# Altium footprint library res.PcbLib: 38 footprints (part 1 of 3)
Each footprint in its own frame and in the unit in brackets; x right, y up, seen from the top. Pads: shape width x height; smd on the part's side, far side on the other; paste and mask are expansions set on the pad; w line width, h text height; cw(c..) or ccw(c..) is an arc to the next point about the centre after c.
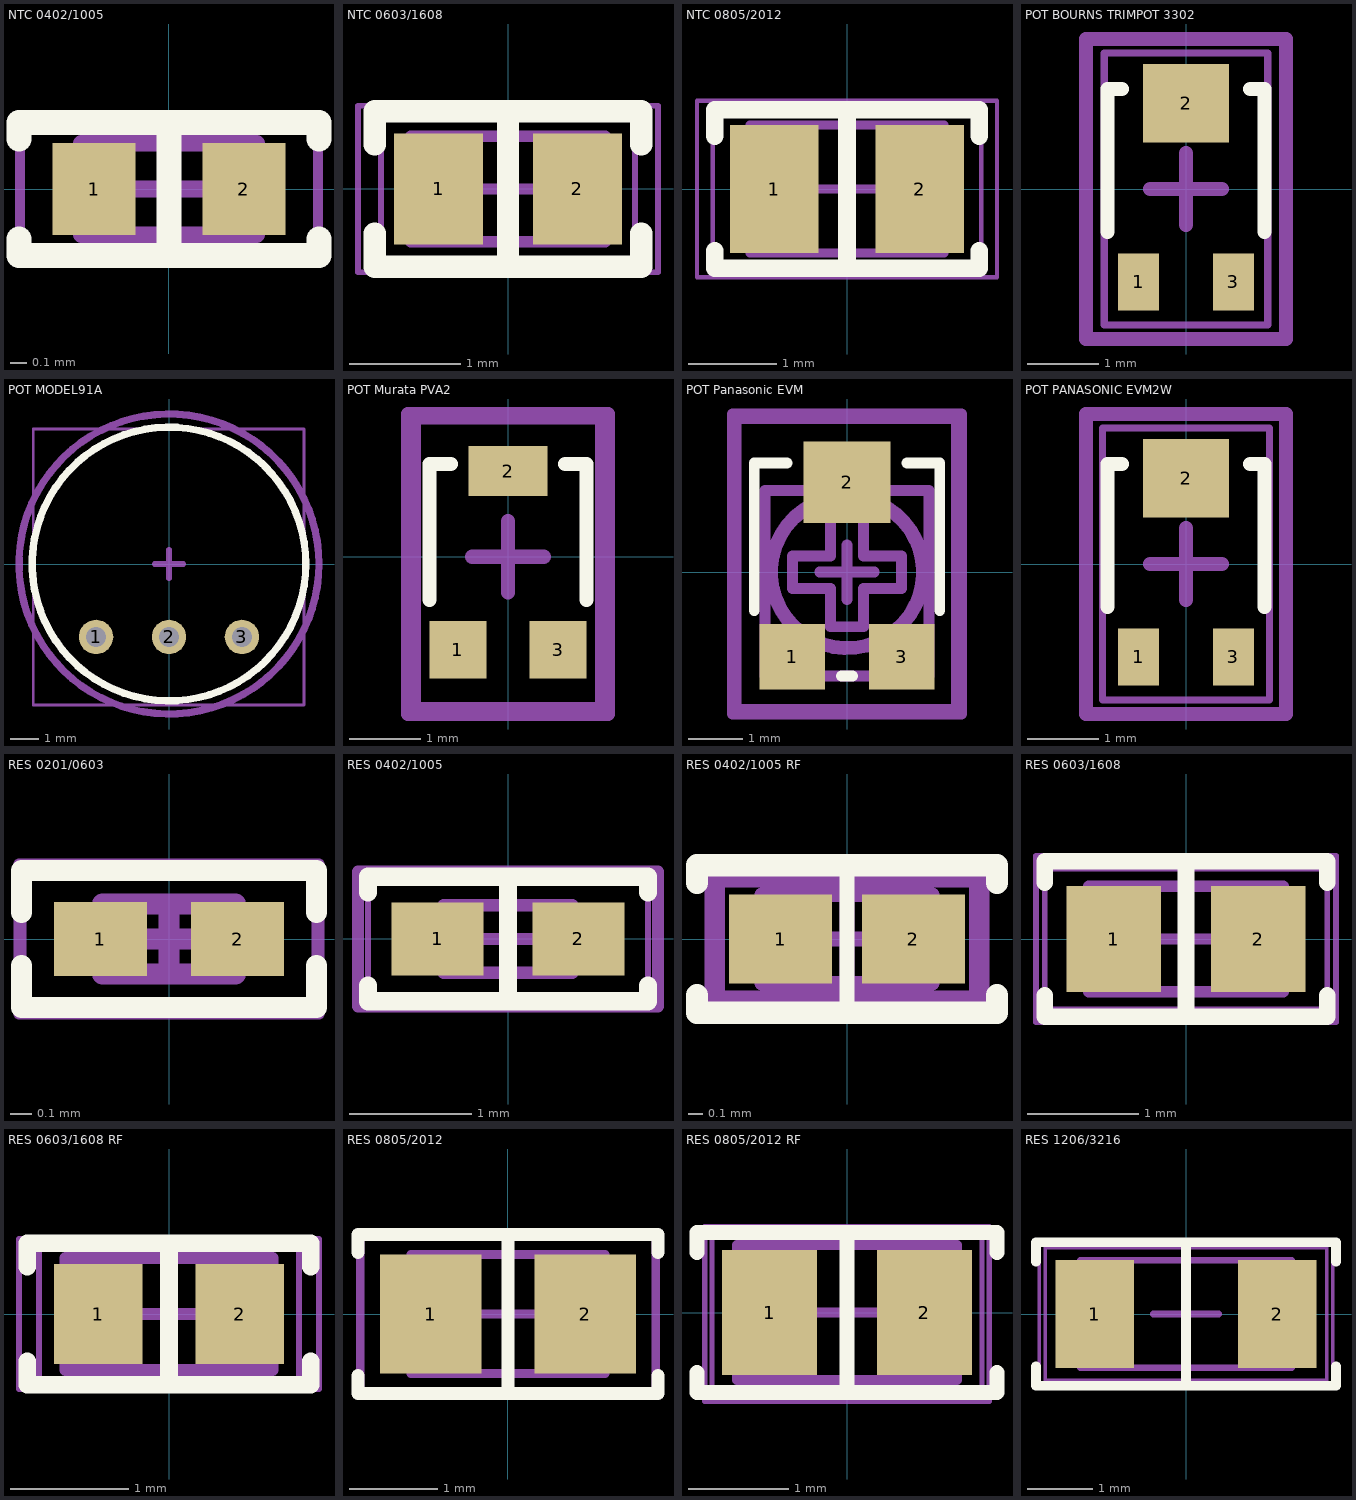
[diagram p0: the footprints below, top view; thin cyan lines are the x and y axes]

## NTC 0402/1005 [mm] "Chip Thermistor, 2-Leads, Body 1.00x0.50mm, IPC Medium Density"
height 0.55
pads (2):
  rect 0.5x0.55 smd: 1(-0.45,0) 2(0.45,0)
Top Overlay:
  lines w0.15: -0.9,-0.3 -0.9,-0.4 0,-0.4 ; -0.9,0.3 -0.9,0.4 -0.2,0.4 0.9,0.4 0.9,0.3 ; 0,0.4 0,-0.4 ; 0.9,-0.3 0.9,-0.4 0,-0.4
Mechanical 13:
  lines w0.1: -0.525,-0.275 0.525,-0.275 0.525,0.275 -0.525,0.275 -0.525,-0.275
Top Component:
  lines w0.051: -0.889,-0.381 -0.889,0.381 0.889,0.381 0.889,-0.381 -0.889,-0.381
  text ".Designator" at -0.305,-0.203 h0.76
Comment:
  text "'.Comment'" at -0.305,-0.203 h0.76
Component Center:
  lines w0.05: -0.9,-0.45 -0.9,0.45 0.9,0.45 0.9,-0.45 -0.9,-0.45
  lines w0.1: -0.275,0 0.275,0 ; 0,-0.275 0,0.275
3D body "NTC 0402.STEP": height 0.55, standoff 0.03, extent -0.5,-0.262 0.5,0.262

## NTC 0603/1608 [mm] "NTC Thermistor, 2-Leads, Body 1.60x0.80mm, IPC Medium Density"
height 0.95
pads (2):
  rect 0.8x1 smd: 1(-0.625,0) 2(0.625,0)
Top Overlay:
  lines w0.2: -1.2,-0.4 -1.2,-0.7 1.2,-0.7 1.2,-0.4 ; -1.2,0.4 -1.2,0.7 1.2,0.7 1.2,0.4 ; 0,-0.7 0,0.7
Mechanical 13:
  lines w0.1: -0.875,-0.475 0.875,-0.475 0.875,0.475 -0.875,0.475 -0.875,-0.475
Top Component:
  lines w0.051: -1.143,-0.635 -1.143,0.635 1.143,0.635 1.143,-0.635 -1.143,-0.635
  text ".Designator" at -0.406,-0.305 h1.02
Comment:
  text "'.Comment'" at -0.406,-0.305 h1.02
Component Center:
  lines w0.05: -1.35,-0.75 -1.35,0.75 1.35,0.75 1.35,-0.75 -1.35,-0.75
  lines w0.1: -0.475,0 0.475,0 ; 0,-0.475 0,0.475
3D body "NTC 0603.STEP": height 0.85, standoff 0.03, extent -0.8,-0.412 0.8,0.412

## NTC 0805/2012 [mm] "Chip Thermistor, 2-Leads, Body 2.00x1.25mm, IPC Medium Density"
height 1
pads (2):
  rect 1x1.45 smd: 1(-0.825,0) 2(0.825,0)
Top Overlay:
  lines w0.2: -1.5,-0.7 -1.5,-0.9 1.5,-0.9 1.5,-0.7 ; -1.5,0.6 -1.5,0.9 1.5,0.9 1.5,0.6 ; 0,-0.9 0,0.9
Mechanical 13:
  lines w0.1: -1.1,-0.725 -1.1,0.725 1.1,0.725 1.1,-0.725 -1.1,-0.725
Top Component:
  lines w0.051: -1.524,-0.889 1.524,-0.889 1.524,0.889 -1.524,0.889 -1.524,-0.889
  text ".Designator" at -0.508,-0.381 h1.27
Comment:
  text "'.Comment'" at -0.508,-0.381 h1.27
Component Center:
  lines w0.05: -1.7,-1 1.7,-1 1.7,1 -1.7,1 -1.7,-1
  lines w0.1: -0.5,0 0.5,0 ; 0,-0.5 0,0.5
3D body "NTC 0805.STEP": height 1.3, standoff 0.03, extent -1,-0.637 1,0.637

## POT BOURNS TRIMPOT 3302 [mm] "Bourns Trimpot 3302 - Open Frame 2.75mm x 2.20mm x 1.05mm"
height 1.05
pads (3):
  rect 0.575x0.8 smd: 1(-0.663,-1.3) 3(0.663,-1.3)
  rect 1.2x1.1 smd: 2(0,1.2)
Top Overlay:
  lines w0.2: -1.1,-0.6 -1.1,1.4 -0.9,1.4 ; 0.9,1.4 1.1,1.4 1.1,-0.6
Top Component:
  lines w0.102: -1.143,-1.905 1.143,-1.905 1.143,1.905 -1.143,1.905 -1.143,-1.905
  text ".Designator" at 0.33,-0.508 h1.27
Component Center:
  lines w0.2: -0.5,0 0.5,0 ; 0,-0.5 0,0.5 ; -1.4,-2.1 1.4,-2.1 1.4,2.1 -1.4,2.1 -1.4,-2.1
3D body "Panasonic EVM2W.STEP": height 0.86, standoff 0.05, extent -1.1,-1.3 1.1,1.45

## POT MODEL91A [mm]
height 5.08
pads (3):
  round 1.2 hole 0.7: 1(-2.54,-2.54) 2(0,-2.54) 3(2.54,-2.54)
Top Overlay:
  circle w0.254: c0,0 r4.763
Top Component:
  lines w0.102: -4.724,-4.902 4.699,-4.902 4.699,4.699 -4.724,4.699 -4.724,-4.902
  text ".Designator" at -1.041,-0.686 h2.54
Component Center:
  circle w0.254: c0,0 r5.22
  lines w0.2: -0.5,0 0.5,0 ; 0,-0.5 0,0.5
3D body "91A-1 mod.STEP": height 4.89, standoff -1.79, extent -4.681,-4.877 4.681,4.699

## POT Murata PVA2 [mm] "Murata PVA2 2.75mm x 2.20mm x 0.80mm"
height 0.8
pads (3):
  rect 0.8x0.8 smd: 1(-0.7,-1.3) 3(0.7,-1.3)
  rect 1.1x0.7 smd: 2(0,1.2)
Top Overlay:
  lines w0.2: -1.1,-0.6 -1.1,1.3 -0.8,1.3 ; 0.8,1.3 1.1,1.3 1.1,-0.6
Top Component:
  lines w0.102: -1.27,-2.083 1.27,-2.083 1.27,1.905 -1.27,1.905 -1.27,-2.083
  text ".Designator" at 0.33,-0.508 h1.27
Component Center:
  lines w0.2: -0.5,0 0.5,0 ; 0,-0.5 0,0.5 ; -1.4,-2.2 -1.4,2 1.4,2 1.4,-2.2 -1.4,-2.2
3D body "Murata PVA2.STEP": height 0.8, standoff 0, extent -1.1,-1.45 1.1,1.3

## POT Panasonic EVM [mm] "Panasonic EVM3Y 3.45mm x 3.10mm x 1.55mm"
height 1.55
pads (3):
  rect 1.2x1.2 smd: 1(-1,-1.55) 3(1,-1.55)
  rect 1.6x1.5 smd: 2(0,1.65)
Top Overlay:
  lines w0.2: -1.7,-0.7 -1.7,2 -1.1,2 ; -0.1,-1.9 0.1,-1.9 ; 1.1,2 1.7,2 1.7,-0.7
Mechanical 1:
  circle w0.254: c0,0 r1.393
  lines w0.2: -1.5,-1.9 -1.5,1.5 1.5,1.5 1.5,-1.9 -1.5,-1.9 ; -1,-0.3 -0.3,-0.3 -0.3,-1 0.3,-1 0.3,-0.3 1,-0.3 1,0.3 0.3,0.3 0.3,1 -0.3,1 -0.3,0.3 -1,0.3 -1,-0.3
Top Component:
  lines w0.102: -1.981,-2.464 1.956,-2.464 1.956,2.769 -1.981,2.769 -1.981,-2.464
  text ".Designator" at 0.33,-0.508 h1.27
Component Center:
  lines w0.2: -0.5,0 0.5,0 ; 0,-0.5 0,0.5 ; -2.1,-2.6 -2.1,2.9 2.1,2.9 2.1,-2.6 -2.1,-2.6
3D body "Panasonic EVM.STEP": height 1.55, standoff 0, extent -1.55,-1.9 1.55,1.85

## POT PANASONIC EVM2W [mm] "Panasonic EVM2W 2.75mm x 2.20mm x 1.05mm"
height 1.05
pads (3):
  rect 0.575x0.8 smd: 1(-0.663,-1.3) 3(0.663,-1.3)
  rect 1.2x1.1 smd: 2(0,1.2)
Top Overlay:
  lines w0.2: -1.1,-0.6 -1.1,1.4 -0.9,1.4 ; 0.9,1.4 1.1,1.4 1.1,-0.6
Top Component:
  lines w0.102: -1.168,-1.905 -1.168,1.905 1.168,1.905 1.168,-1.905 -1.168,-1.905
  text ".Designator" at 0.356,-0.508 h1.27
Component Center:
  lines w0.2: -0.5,0 0.5,0 ; 0,-0.5 0,0.5 ; -1.4,-2.1 1.4,-2.1 1.4,2.1 -1.4,2.1 -1.4,-2.1
3D body "Panasonic EVM2W.STEP": height 0.81, standoff 0, extent -1.1,-1.3 1.1,1.45

## RES 0201/0603 [mm] "Chip Resistor, 2-Leads, Body 0.60x0.30mm, IPC Medium Density"
height 0.26
pads (2):
  rect 0.44x0.35 smd: 1(-0.325,0) 2(0.325,0)
Top Overlay:
  lines w0.1: -0.7,-0.125 -0.7,-0.325 0.7,-0.325 0.7,-0.125 ; -0.7,0.125 -0.7,0.325 0.7,0.325 0.7,0.125
Mechanical 13:
  lines w0.1: -0.315,-0.165 -0.315,0.165 0.315,0.165 0.315,-0.165 -0.315,-0.165
Top Component:
  lines w0.051: -0.711,-0.356 -0.711,0.356 0.711,0.356 0.711,-0.356 -0.711,-0.356
  text ".Designator" at -0.254,-0.178 h0.64
Component Center:
  lines w0.05: -0.7,-0.35 0.7,-0.35 0.7,0.35 -0.7,0.35 -0.7,-0.35
  lines w0.1: -0.165,0 0.165,0 ; 0,-0.165 0,0.165
3D body "RES 0201.STEP": height 0.21, standoff -0.01, extent -0.3,-0.15 0.3,0.15

## RES 0402/1005 [mm] "Chip Resistor, 2-Leads, Body 1.0x0.5mm, IPC Medium Density"
height 0.4
pads (2):
  rect 0.75x0.6 smd: 1(-0.575,0) 2(0.575,0)
Top Overlay:
  lines w0.15: -1.143,-0.381 -1.143,-0.508 1.143,-0.508 1.143,-0.381 ; -1.143,0.381 -1.143,0.508 1.143,0.508 1.143,0.381 ; 0,-0.508 0,0.508
Mechanical 13:
  lines w0.1: -0.525,-0.275 -0.525,0.275 0.525,0.275 0.525,-0.275 -0.525,-0.275
Top Component:
  lines w0.051: -1.143,-0.483 -1.143,0.483 1.143,0.483 1.143,-0.483 -1.143,-0.483
  text ".Designator" at -0.305,-0.203 h0.76
Comment:
  lines w0.051: -1.143,-0.483 1.143,-0.483 1.143,0.483 -1.143,0.483 -1.143,-0.483
  text "'.Comment'" at -0.305,-0.203 h0.76
Component Center:
  lines w0.1: -0.275,0 0.275,0 ; 0,-0.275 0,0.275 ; -1.225,-0.55 1.225,-0.55 1.225,0.55 -1.225,0.55 -1.225,-0.55
3D body "0402 resistor.STEP": height 0.38, standoff 0.03, extent -0.5,-0.25 0.5,0.25

## RES 0402/1005 RF [mm] "Chip Resistor, 2-Leads, Body 1.0x0.5mm, IPC High Density"
height 0.4
pads (2):
  rect 0.7x0.6 smd: 1(-0.45,0) 2(0.45,0)
Top Overlay:
  lines w0.1: 0,-0.508 0,0.508
  lines w0.15: -1.016,-0.381 -1.016,-0.5 1.016,-0.5 1.016,-0.381 ; -1.016,0.381 -1.016,0.5 1.016,0.5 1.016,0.381
Mechanical 13:
  lines w0.1: -0.575,-0.3 -0.575,0.3 0.575,0.3 0.575,-0.3 -0.575,-0.3
Top Component:
  lines w0.051: -0.94,-0.432 -0.94,0.432 0.94,0.432 0.94,-0.432 -0.94,-0.432
  text ".Designator" at -0.305,-0.203 h0.76
Comment:
  lines w0.051: -0.94,-0.432 0.94,-0.432 0.94,0.432 -0.94,0.432 -0.94,-0.432
  text "'.Comment'" at -0.305,-0.203 h0.76
Component Center:
  lines w0.1: -0.3,0 0.3,0 ; 0,-0.3 0,0.3 ; -0.875,-0.4 0.875,-0.4 0.875,0.4 -0.875,0.4 -0.875,-0.4
3D body "0402 resistor.STEP": height 0.38, standoff 0.03, extent -0.5,-0.25 0.5,0.25

## RES 0603/1608 [mm] "Chip Resistor, 2-Leads, Body 1.60x0.80mm, IPC Medium Density"
height 0.45
pads (2):
  rect 0.85x0.95 smd: 1(-0.65,0) 2(0.65,0)
Top Overlay:
  lines w0.15: -1.27,-0.508 -1.27,-0.7 1.27,-0.7 1.27,-0.508 ; -1.27,0.508 -1.27,0.7 1.27,0.7 1.27,0.508 ; 0,-0.7 0,0.7
Mechanical 13:
  lines w0.1: -0.875,-0.475 -0.875,0.475 0.875,0.475 0.875,-0.475 -0.875,-0.475
Top Component:
  lines w0.051: -1.27,-0.635 1.27,-0.635 1.27,0.635 -1.27,0.635 -1.27,-0.635
  text ".Designator" at -0.406,-0.305 h1.02
Comment:
  lines w0.051: -1.27,-0.635 -1.27,0.635 1.27,0.635 1.27,-0.635 -1.27,-0.635
  text "'.Comment'" at -0.406,-0.305 h1.02
Component Center:
  lines w0.05: -1.35,-0.75 1.35,-0.75 1.35,0.75 -1.35,0.75 -1.35,-0.75
  lines w0.1: -0.475,0 0.475,0 ; 0,-0.475 0,0.475
3D body "0603 resistor.STEP": height 0.48, standoff 0.03, extent -0.8,-0.4 0.8,0.4

## RES 0603/1608 RF [mm] "Chip Resistor, 2-Leads, Body 1.60x0.80mm, IPC High Density"
height 0.45
pads (2):
  rect 0.75x0.85 smd: 1(-0.6,0) 2(0.6,0)
Top Overlay:
  lines w0.15: -1.2,-0.4 -1.2,-0.6 1.2,-0.6 1.2,-0.4 ; -1.2,0.4 -1.2,0.6 1.2,0.6 1.2,0.4 ; 0,-0.6 0,0.6
Mechanical 13:
  lines w0.1: -0.875,-0.475 0.875,-0.475 0.875,0.475 -0.875,0.475 -0.875,-0.475
Top Component:
  lines w0.051: -1.27,-0.635 1.27,-0.635 1.27,0.635 -1.27,0.635 -1.27,-0.635
  text ".Designator" at -0.406,-0.305 h1.02
Comment:
  lines w0.051: -1.27,-0.635 -1.27,0.635 1.27,0.635 1.27,-0.635 -1.27,-0.635
  text "'.Comment'" at -0.406,-0.305 h1.02
Component Center:
  lines w0.05: -1.1,-0.6 -1.1,0.6 1.1,0.6 1.1,-0.6 -1.1,-0.6
  lines w0.1: -0.475,0 0.475,0 ; 0,-0.475 0,0.475
3D body "0603 resistor.STEP": height 0.48, standoff 0.03, extent -0.8,-0.4 0.8,0.4

## RES 0805/2012 [mm] "Chip Resistor, 2-Leads, Body 2.00x1.25mm, IPC Medium Density"
height 0.7
pads (2):
  rect 1.15x1.35 smd: 1(-0.875,0) 2(0.875,0)
Top Overlay:
  lines w0.15: -1.7,-0.7 -1.7,-0.9 1.7,-0.9 1.7,-0.7 ; -1.7,0.7 -1.7,0.9 1.7,0.9 1.7,0.7 ; 0,-0.9 0,0.9
Mechanical 13:
  lines w0.1: -1.1,-0.675 -1.1,0.675 1.1,0.675 1.1,-0.675 -1.1,-0.675
Top Component:
  lines w0.051: -1.651,-0.889 -1.651,0.864 1.651,0.864 1.651,-0.889 -1.651,-0.889
  text ".Designator" at -0.61,-0.381 h1.52
Comment:
  lines w0.051: -1.651,-0.889 1.651,-0.889 1.651,0.864 -1.651,0.864 -1.651,-0.889
  text "'.Comment'" at -0.61,-0.381 h1.52
Component Center:
  lines w0.05: -1.7,-0.95 1.7,-0.95 1.7,0.95 -1.7,0.95 -1.7,-0.95
  lines w0.1: -0.5,0 0.5,0 ; 0,-0.5 0,0.5
3D body "0805 resistor.STEP": height 0.63, standoff 0.03, extent -0.95,-0.625 1.05,0.625

## RES 0805/2012 RF [mm] "Chip Resistor, 2-Leads, Body 2.00x1.25mm, IPC High Density"
height 0.7
pads (2):
  rect 0.95x1.25 smd: 1(-0.775,0) 2(0.775,0)
Top Overlay:
  lines w0.15: -1.5,-0.6 -1.5,-0.8 1.5,-0.8 1.5,-0.6 ; -1.5,0.6 -1.5,0.8 1.5,0.8 1.5,0.6 ; 0,-0.8 0,0.8
Mechanical 13:
  lines w0.1: -1.1,-0.675 -1.1,0.675 1.1,0.675 1.1,-0.675 -1.1,-0.675
Top Component:
  lines w0.051: -1.422,-0.889 1.422,-0.889 1.422,0.864 -1.422,0.864 -1.422,-0.889
  text ".Designator" at -0.584,-0.381 h1.52
Comment:
  lines w0.051: -1.422,-0.889 -1.422,0.864 1.422,0.864 1.422,-0.889 -1.422,-0.889
  text "'.Comment'" at -0.584,-0.381 h1.52
Component Center:
  lines w0.05: -1.35,-0.8 -1.35,0.8 1.35,0.8 1.35,-0.8 -1.35,-0.8
  lines w0.1: -0.5,0 0.5,0 ; 0,-0.5 0,0.5
3D body "0805 resistor.STEP": height 0.63, standoff 0.03, extent -0.95,-0.625 1.05,0.625

## RES 1206/3216 [mm] "Chip Resistor, 2-Leads, Body 3.13x1.55mm, IPC Medium Density"
height 0.7
pads (2):
  rect 1.2x1.65 smd: 1(-1.4,0) 2(1.4,0)
Top Overlay:
  lines w0.15: -2.3,-0.8 -2.3,-1.1 2.3,-1.1 2.3,-0.8 ; -2.3,0.8 -2.3,1.1 2.3,1.1 2.3,0.8 ; 0,-1.1 0,1.1
Mechanical 13:
  lines w0.1: -1.625,-0.825 1.625,-0.825 1.625,0.825 -1.625,0.825 -1.625,-0.825
Top Component:
  lines w0.051: -2.159,-1.016 -2.159,1.016 2.159,1.016 2.159,-1.016 -2.159,-1.016
  text ".Designator" at -0.508,-0.33 h1.52
Comment:
  lines w0.051: -2.159,-1.016 2.159,-1.016 2.159,1.016 -2.159,1.016 -2.159,-1.016
  text "'.Comment'" at -0.508,-0.33 h1.52
Component Center:
  lines w0.05: -2.25,-1.1 -2.25,1.1 2.25,1.1 2.25,-1.1 -2.25,-1.1
  lines w0.1: -0.5,0 0.5,0 ; 0,-0.5 0,0.5
3D body "1206 resistor.STEP": height 0.63, standoff 0.03, extent -1.575,-0.8 1.625,0.8